# Altium footprint library Leaded Chip Carrier (Square) - Centre Index.PcbLib: 48 footprints (part 3 of 3)
Each footprint in its own frame and in the unit in brackets; x right, y up, seen from the top. Pads: shape width x height; smd on the part's side, far side on the other; paste and mask are expansions set on the pad; w line width, h text height; cw(c..) or ccw(c..) is an arc to the next point about the centre after c.
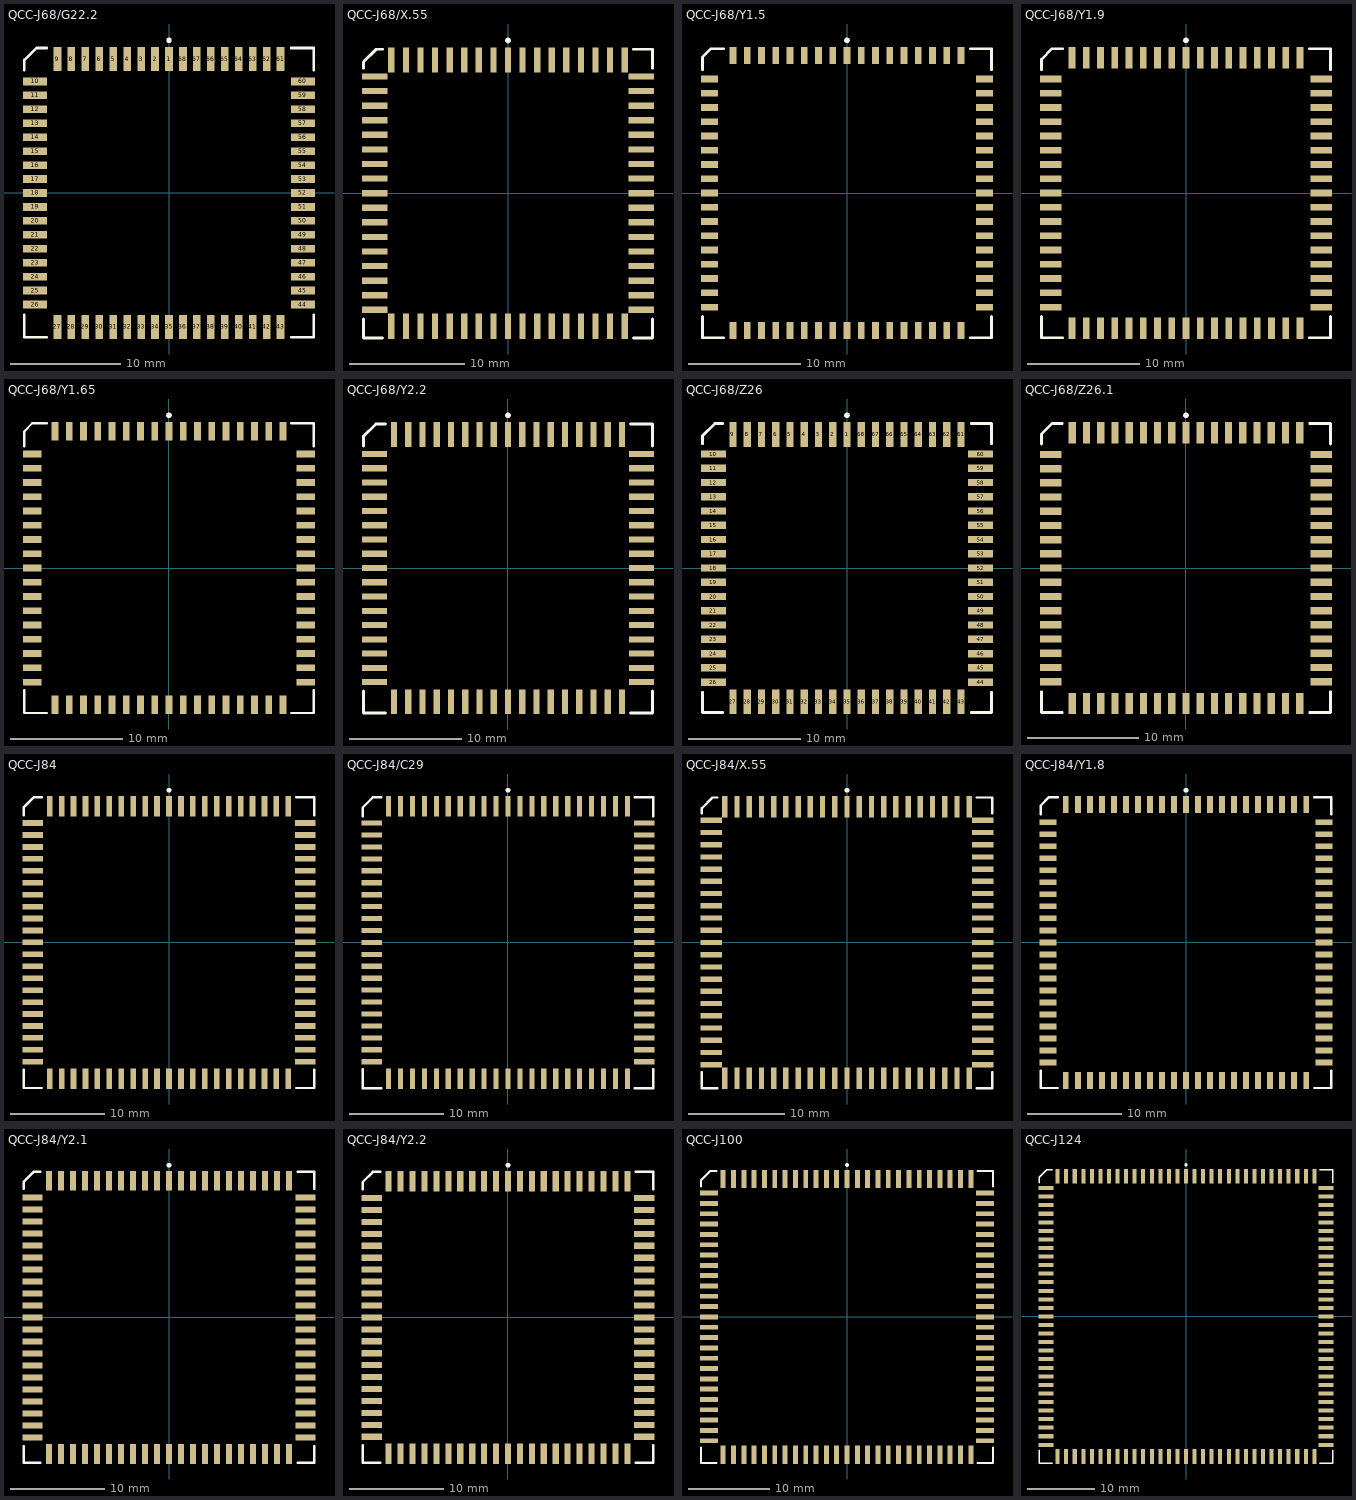
[diagram p2: the footprints below, top view; thin cyan lines are the x and y axes]

## QCC-J68/G22.2 [mm] "Leaded Chip Carrier; 68 Leads; Body 24 x 24 mm"
height 3.68
pads (68):
  rect 0.7x2.2 smd: 1(0,12.2) 2(-1.27,12.2) 3(-2.54,12.2) 4(-3.81,12.2) 5(-5.08,12.2) 6(-6.35,12.2) 7(-7.62,12.2) 8(-8.89,12.2) 9(-10.16,12.2) 27(-10.16,-12.2) 28(-8.89,-12.2) 29(-7.62,-12.2) 30(-6.35,-12.2) 31(-5.08,-12.2) 32(-3.81,-12.2) 33(-2.54,-12.2) 34(-1.27,-12.2) 35(0,-12.2) 36(1.27,-12.2) 37(2.54,-12.2) 38(3.81,-12.2) 39(5.08,-12.2) 40(6.35,-12.2) 41(7.62,-12.2) 42(8.89,-12.2) 43(10.16,-12.2) 61(10.16,12.2) 62(8.89,12.2) 63(7.62,12.2) 64(6.35,12.2) 65(5.08,12.2) 66(3.81,12.2) 67(2.54,12.2) 68(1.27,12.2)
  rect 2.2x0.7 smd: 10(-12.2,10.16) 11(-12.2,8.89) 12(-12.2,7.62) 13(-12.2,6.35) 14(-12.2,5.08) 15(-12.2,3.81) 16(-12.2,2.54) 17(-12.2,1.27) 18(-12.2,0) 19(-12.2,-1.27) 20(-12.2,-2.54) 21(-12.2,-3.81) 22(-12.2,-5.08) 23(-12.2,-6.35) 24(-12.2,-7.62) 25(-12.2,-8.89) 26(-12.2,-10.16) 44(12.2,-10.16) 45(12.2,-8.89) 46(12.2,-7.62) 47(12.2,-6.35) 48(12.2,-5.08) 49(12.2,-3.81) 50(12.2,-2.54) 51(12.2,-1.27) 52(12.2,0) 53(12.2,1.27) 54(12.2,2.54) 55(12.2,3.81) 56(12.2,5.08) 57(12.2,6.35) 58(12.2,7.62) 59(12.2,8.89) 60(12.2,10.16)
Top Overlay:
  circle w0.25: c0,13.9 r0.125
  lines w0.25: -13.175,-11.107 -13.175,-13.137 -11.145,-13.137 ; -13.175,11.182 -13.175,12.113 -12.075,13.213 -11.145,13.213 ; 11.145,-13.137 13.175,-13.137 13.175,-11.107 ; 11.145,13.213 13.175,13.213 13.175,11.182

## QCC-J68/X.55 [mm]
pads (68):
  rect 0.55x2.2 smd: 1(0,11.6) 2(-1.27,11.6) 3(-2.54,11.6) 4(-3.81,11.6) 5(-5.08,11.6) 6(-6.35,11.6) 7(-7.62,11.6) 8(-8.89,11.6) 9(-10.16,11.6) 27(-10.16,-11.6) 28(-8.89,-11.6) 29(-7.62,-11.6) 30(-6.35,-11.6) 31(-5.08,-11.6) 32(-3.81,-11.6) 33(-2.54,-11.6) 34(-1.27,-11.6) 35(0,-11.6) 36(1.27,-11.6) 37(2.54,-11.6) 38(3.81,-11.6) 39(5.08,-11.6) 40(6.35,-11.6) 41(7.62,-11.6) 42(8.89,-11.6) 43(10.16,-11.6) 61(10.16,11.6) 62(8.89,11.6) 63(7.62,11.6) 64(6.35,11.6) 65(5.08,11.6) 66(3.81,11.6) 67(2.54,11.6) 68(1.27,11.6)
  rect 2.2x0.55 smd: 10(-11.6,10.16) 11(-11.6,8.89) 12(-11.6,7.62) 13(-11.6,6.35) 14(-11.6,5.08) 15(-11.6,3.81) 16(-11.6,2.54) 17(-11.6,1.27) 18(-11.6,0) 19(-11.6,-1.27) 20(-11.6,-2.54) 21(-11.6,-3.81) 22(-11.6,-5.08) 23(-11.6,-6.35) 24(-11.6,-7.62) 25(-11.6,-8.89) 26(-11.6,-10.16) 44(11.6,-10.16) 45(11.6,-8.89) 46(11.6,-7.62) 47(11.6,-6.35) 48(11.6,-5.08) 49(11.6,-3.81) 50(11.6,-2.54) 51(11.6,-1.27) 52(11.6,0) 53(11.6,1.27) 54(11.6,2.54) 55(11.6,3.81) 56(11.6,5.08) 57(11.6,6.35) 58(11.6,7.62) 59(11.6,8.89) 60(11.6,10.16)
Top Overlay:
  circle w0.25: c0,13.3 r0.125
  lines w0.25: -12.575,-10.958 -12.575,-12.612 -10.92,-12.612 ; -12.575,10.883 -12.575,11.437 -11.475,12.537 -10.92,12.537 ; 10.92,-12.612 12.575,-12.612 12.575,-10.958 ; 10.92,12.537 12.575,12.537 12.575,10.883

## QCC-J68/Y1.5 [mm] "Leaded Chip Carrier; 68 Leads; Body 24.2 x 24.2 mm"
height 4.5
pads (68):
  rect 0.6x1.5 smd: 1(0,12.25) 2(-1.27,12.25) 3(-2.54,12.25) 4(-3.81,12.25) 5(-5.08,12.25) 6(-6.35,12.25) 7(-7.62,12.25) 8(-8.89,12.25) 9(-10.16,12.25) 27(-10.16,-12.25) 28(-8.89,-12.25) 29(-7.62,-12.25) 30(-6.35,-12.25) 31(-5.08,-12.25) 32(-3.81,-12.25) 33(-2.54,-12.25) 34(-1.27,-12.25) 35(0,-12.25) 36(1.27,-12.25) 37(2.54,-12.25) 38(3.81,-12.25) 39(5.08,-12.25) 40(6.35,-12.25) 41(7.62,-12.25) 42(8.89,-12.25) 43(10.16,-12.25) 61(10.16,12.25) 62(8.89,12.25) 63(7.62,12.25) 64(6.35,12.25) 65(5.08,12.25) 66(3.81,12.25) 67(2.54,12.25) 68(1.27,12.25)
  rect 1.5x0.6 smd: 10(-12.25,10.16) 11(-12.25,8.89) 12(-12.25,7.62) 13(-12.25,6.35) 14(-12.25,5.08) 15(-12.25,3.81) 16(-12.25,2.54) 17(-12.25,1.27) 18(-12.25,0) 19(-12.25,-1.27) 20(-12.25,-2.54) 21(-12.25,-3.81) 22(-12.25,-5.08) 23(-12.25,-6.35) 24(-12.25,-7.62) 25(-12.25,-8.89) 26(-12.25,-10.16) 44(12.25,-10.16) 45(12.25,-8.89) 46(12.25,-7.62) 47(12.25,-6.35) 48(12.25,-5.08) 49(12.25,-3.81) 50(12.25,-2.54) 51(12.25,-1.27) 52(12.25,0) 53(12.25,1.27) 54(12.25,2.54) 55(12.25,3.81) 56(12.25,5.08) 57(12.25,6.35) 58(12.25,7.62) 59(12.25,8.89) 60(12.25,10.16)
Top Overlay:
  circle w0.25: c0,13.6 r0.125
  lines w0.25: -12.875,-11.008 -12.875,-12.887 -10.995,-12.887 ; -12.875,10.982 -12.875,12.113 -12.125,12.862 -10.995,12.862 ; 10.995,-12.887 12.875,-12.887 12.875,-11.008 ; 10.995,12.862 12.875,12.862 12.875,10.982

## QCC-J68/Y1.9 [mm] "Leaded Chip Carrier; 68 Leads; Body 24.2 x 24.2 mm"
height 4.5
pads (68):
  rect 0.6x1.9 smd: 1(0,12.05) 2(-1.27,12.05) 3(-2.54,12.05) 4(-3.81,12.05) 5(-5.08,12.05) 6(-6.35,12.05) 7(-7.62,12.05) 8(-8.89,12.05) 9(-10.16,12.05) 27(-10.16,-12.05) 28(-8.89,-12.05) 29(-7.62,-12.05) 30(-6.35,-12.05) 31(-5.08,-12.05) 32(-3.81,-12.05) 33(-2.54,-12.05) 34(-1.27,-12.05) 35(0,-12.05) 36(1.27,-12.05) 37(2.54,-12.05) 38(3.81,-12.05) 39(5.08,-12.05) 40(6.35,-12.05) 41(7.62,-12.05) 42(8.89,-12.05) 43(10.16,-12.05) 61(10.16,12.05) 62(8.89,12.05) 63(7.62,12.05) 64(6.35,12.05) 65(5.08,12.05) 66(3.81,12.05) 67(2.54,12.05) 68(1.27,12.05)
  rect 1.9x0.6 smd: 10(-12.05,10.16) 11(-12.05,8.89) 12(-12.05,7.62) 13(-12.05,6.35) 14(-12.05,5.08) 15(-12.05,3.81) 16(-12.05,2.54) 17(-12.05,1.27) 18(-12.05,0) 19(-12.05,-1.27) 20(-12.05,-2.54) 21(-12.05,-3.81) 22(-12.05,-5.08) 23(-12.05,-6.35) 24(-12.05,-7.62) 25(-12.05,-8.89) 26(-12.05,-10.16) 44(12.05,-10.16) 45(12.05,-8.89) 46(12.05,-7.62) 47(12.05,-6.35) 48(12.05,-5.08) 49(12.05,-3.81) 50(12.05,-2.54) 51(12.05,-1.27) 52(12.05,0) 53(12.05,1.27) 54(12.05,2.54) 55(12.05,3.81) 56(12.05,5.08) 57(12.05,6.35) 58(12.05,7.62) 59(12.05,8.89) 60(12.05,10.16)
Top Overlay:
  circle w0.25: c0,13.6 r0.125
  lines w0.25: -12.875,-11.008 -12.875,-12.887 -10.995,-12.887 ; -12.875,10.982 -12.875,11.913 -11.925,12.862 -10.995,12.862 ; 10.995,-12.887 12.875,-12.887 12.875,-11.008 ; 10.995,12.862 12.875,12.862 12.875,10.982

## QCC-J68/Y1.65 [mm] "Leaded Chip Carrier; 68 Leads; Body 24.2 x 24.2 mm"
height 4.58
pads (68):
  rect 0.6x1.65 smd: 1(0,12.175) 2(-1.27,12.175) 3(-2.54,12.175) 4(-3.81,12.175) 5(-5.08,12.175) 6(-6.35,12.175) 7(-7.62,12.175) 8(-8.89,12.175) 9(-10.16,12.175) 27(-10.16,-12.175) 28(-8.89,-12.175) 29(-7.62,-12.175) 30(-6.35,-12.175) 31(-5.08,-12.175) 32(-3.81,-12.175) 33(-2.54,-12.175) 34(-1.27,-12.175) 35(0,-12.175) 36(1.27,-12.175) 37(2.54,-12.175) 38(3.81,-12.175) 39(5.08,-12.175) 40(6.35,-12.175) 41(7.62,-12.175) 42(8.89,-12.175) 43(10.16,-12.175) 61(10.16,12.175) 62(8.89,12.175) 63(7.62,12.175) 64(6.35,12.175) 65(5.08,12.175) 66(3.81,12.175) 67(2.54,12.175) 68(1.27,12.175)
  rect 1.65x0.6 smd: 10(-12.175,10.16) 11(-12.175,8.89) 12(-12.175,7.62) 13(-12.175,6.35) 14(-12.175,5.08) 15(-12.175,3.81) 16(-12.175,2.54) 17(-12.175,1.27) 18(-12.175,0) 19(-12.175,-1.27) 20(-12.175,-2.54) 21(-12.175,-3.81) 22(-12.175,-5.08) 23(-12.175,-6.35) 24(-12.175,-7.62) 25(-12.175,-8.89) 26(-12.175,-10.16) 44(12.175,-10.16) 45(12.175,-8.89) 46(12.175,-7.62) 47(12.175,-6.35) 48(12.175,-5.08) 49(12.175,-3.81) 50(12.175,-2.54) 51(12.175,-1.27) 52(12.175,0) 53(12.175,1.27) 54(12.175,2.54) 55(12.175,3.81) 56(12.175,5.08) 57(12.175,6.35) 58(12.175,7.62) 59(12.175,8.89) 60(12.175,10.16)
Top Overlay:
  circle w0.25: c0,13.6 r0.125
  lines w0.2: -12.9,-10.86 -12.9,-12.9 -10.86,-12.9 ; -12.9,10.86 -12.9,12.175 -12.175,12.9 -10.86,12.9 ; 10.86,-12.9 12.9,-12.9 12.9,-10.86 ; 10.86,12.9 12.9,12.9 12.9,10.86

## QCC-J68/Y2.2 [mm] "Leaded Chip Carrier; 68 Leads; Body 24.2 x 24.2 mm"
height 5.08
pads (68):
  rect 0.55x2.2 smd: 1(0,11.9) 2(-1.27,11.9) 3(-2.54,11.9) 4(-3.81,11.9) 5(-5.08,11.9) 6(-6.35,11.9) 7(-7.62,11.9) 8(-8.89,11.9) 9(-10.16,11.9) 27(-10.16,-11.9) 28(-8.89,-11.9) 29(-7.62,-11.9) 30(-6.35,-11.9) 31(-5.08,-11.9) 32(-3.81,-11.9) 33(-2.54,-11.9) 34(-1.27,-11.9) 35(0,-11.9) 36(1.27,-11.9) 37(2.54,-11.9) 38(3.81,-11.9) 39(5.08,-11.9) 40(6.35,-11.9) 41(7.62,-11.9) 42(8.89,-11.9) 43(10.16,-11.9) 61(10.16,11.9) 62(8.89,11.9) 63(7.62,11.9) 64(6.35,11.9) 65(5.08,11.9) 66(3.81,11.9) 67(2.54,11.9) 68(1.27,11.9)
  rect 2.2x0.55 smd: 10(-11.9,10.16) 11(-11.9,8.89) 12(-11.9,7.62) 13(-11.9,6.35) 14(-11.9,5.08) 15(-11.9,3.81) 16(-11.9,2.54) 17(-11.9,1.27) 18(-11.9,0) 19(-11.9,-1.27) 20(-11.9,-2.54) 21(-11.9,-3.81) 22(-11.9,-5.08) 23(-11.9,-6.35) 24(-11.9,-7.62) 25(-11.9,-8.89) 26(-11.9,-10.16) 44(11.9,-10.16) 45(11.9,-8.89) 46(11.9,-7.62) 47(11.9,-6.35) 48(11.9,-5.08) 49(11.9,-3.81) 50(11.9,-2.54) 51(11.9,-1.27) 52(11.9,0) 53(11.9,1.27) 54(11.9,2.54) 55(11.9,3.81) 56(11.9,5.08) 57(11.9,6.35) 58(11.9,7.62) 59(11.9,8.89) 60(11.9,10.16)
Top Overlay:
  circle w0.25: c0,13.6 r0.125
  lines w0.25: -12.875,-10.957 -12.875,-12.912 -10.92,-12.912 ; -12.875,10.883 -12.875,11.738 -11.775,12.838 -10.92,12.838 ; 10.92,-12.912 12.875,-12.912 12.875,-10.957 ; 10.92,12.838 12.875,12.838 12.875,10.883

## QCC-J68/Z26 [mm] "68-Pin J-Leaded Cerquad Chip Carrier"
height 4.58
pads (68):
  rect 0.65x2.2 smd: 1(0,11.9) 2(-1.27,11.9) 3(-2.54,11.9) 4(-3.81,11.9) 5(-5.08,11.9) 6(-6.35,11.9) 7(-7.62,11.9) 8(-8.89,11.9) 9(-10.16,11.9) 27(-10.16,-11.9) 28(-8.89,-11.9) 29(-7.62,-11.9) 30(-6.35,-11.9) 31(-5.08,-11.9) 32(-3.81,-11.9) 33(-2.54,-11.9) 34(-1.27,-11.9) 35(0,-11.9) 36(1.27,-11.9) 37(2.54,-11.9) 38(3.81,-11.9) 39(5.08,-11.9) 40(6.35,-11.9) 41(7.62,-11.9) 42(8.89,-11.9) 43(10.16,-11.9) 61(10.16,11.9) 62(8.89,11.9) 63(7.62,11.9) 64(6.35,11.9) 65(5.08,11.9) 66(3.81,11.9) 67(2.54,11.9) 68(1.27,11.9)
  rect 2.2x0.65 smd: 10(-11.9,10.16) 11(-11.9,8.89) 12(-11.9,7.62) 13(-11.9,6.35) 14(-11.9,5.08) 15(-11.9,3.81) 16(-11.9,2.54) 17(-11.9,1.27) 18(-11.9,0) 19(-11.9,-1.27) 20(-11.9,-2.54) 21(-11.9,-3.81) 22(-11.9,-5.08) 23(-11.9,-6.35) 24(-11.9,-7.62) 25(-11.9,-8.89) 26(-11.9,-10.16) 44(11.9,-10.16) 45(11.9,-8.89) 46(11.9,-7.62) 47(11.9,-6.35) 48(11.9,-5.08) 49(11.9,-3.81) 50(11.9,-2.54) 51(11.9,-1.27) 52(11.9,0) 53(11.9,1.27) 54(11.9,2.54) 55(11.9,3.81) 56(11.9,5.08) 57(11.9,6.35) 58(11.9,7.62) 59(11.9,8.89) 60(11.9,10.16)
Top Overlay:
  circle w0.25: c0,13.6 r0.125
  lines w0.25: -12.875,-11.058 -12.875,-12.863 -11.07,-12.863 ; -12.875,11.083 -12.875,11.788 -11.775,12.888 -11.07,12.888 ; 11.07,-12.863 12.875,-12.863 12.875,-11.058 ; 11.07,12.888 12.875,12.888 12.875,11.083

## QCC-J68/Z26.1 [mm] "Leaded Chip Carrier; 68 Leads; Body 24 x 24 mm"
height 3.43
pads (68):
  rect 0.65x1.9 smd: 1(0,12.1) 2(-1.27,12.1) 3(-2.54,12.1) 4(-3.81,12.1) 5(-5.08,12.1) 6(-6.35,12.1) 7(-7.62,12.1) 8(-8.89,12.1) 9(-10.16,12.1) 27(-10.16,-12.1) 28(-8.89,-12.1) 29(-7.62,-12.1) 30(-6.35,-12.1) 31(-5.08,-12.1) 32(-3.81,-12.1) 33(-2.54,-12.1) 34(-1.27,-12.1) 35(0,-12.1) 36(1.27,-12.1) 37(2.54,-12.1) 38(3.81,-12.1) 39(5.08,-12.1) 40(6.35,-12.1) 41(7.62,-12.1) 42(8.89,-12.1) 43(10.16,-12.1) 61(10.16,12.1) 62(8.89,12.1) 63(7.62,12.1) 64(6.35,12.1) 65(5.08,12.1) 66(3.81,12.1) 67(2.54,12.1) 68(1.27,12.1)
  rect 1.9x0.65 smd: 10(-12.1,10.16) 11(-12.1,8.89) 12(-12.1,7.62) 13(-12.1,6.35) 14(-12.1,5.08) 15(-12.1,3.81) 16(-12.1,2.54) 17(-12.1,1.27) 18(-12.1,0) 19(-12.1,-1.27) 20(-12.1,-2.54) 21(-12.1,-3.81) 22(-12.1,-5.08) 23(-12.1,-6.35) 24(-12.1,-7.62) 25(-12.1,-8.89) 26(-12.1,-10.16) 44(12.1,-10.16) 45(12.1,-8.89) 46(12.1,-7.62) 47(12.1,-6.35) 48(12.1,-5.08) 49(12.1,-3.81) 50(12.1,-2.54) 51(12.1,-1.27) 52(12.1,0) 53(12.1,1.27) 54(12.1,2.54) 55(12.1,3.81) 56(12.1,5.08) 57(12.1,6.35) 58(12.1,7.62) 59(12.1,8.89) 60(12.1,10.16)
Top Overlay:
  circle w0.25: c0,13.65 r0.125
  lines w0.25: -12.925,-11.058 -12.925,-12.912 -11.07,-12.912 ; -12.925,11.083 -12.925,11.988 -11.975,12.937 -11.07,12.937 ; 11.07,-12.912 12.925,-12.912 12.925,-11.058 ; 11.07,12.937 12.925,12.937 12.925,11.083

## QCC-J84 [mm] "84-Pin Plastic Leaded Chip Carrier (PLCC)"
height 4.58
pads (84):
  rect 0.6x2.2 smd: 1(0,14.5) 2(-1.27,14.5) 3(-2.54,14.5) 4(-3.81,14.5) 5(-5.08,14.5) 6(-6.35,14.5) 7(-7.62,14.5) 8(-8.89,14.5) 9(-10.16,14.5) 10(-11.43,14.5) 11(-12.7,14.5) 33(-12.7,-14.5) 34(-11.43,-14.5) 35(-10.16,-14.5) 36(-8.89,-14.5) 37(-7.62,-14.5) 38(-6.35,-14.5) 39(-5.08,-14.5) 40(-3.81,-14.5) 41(-2.54,-14.5) 42(-1.27,-14.5) 43(0,-14.5) 44(1.27,-14.5) 45(2.54,-14.5) 46(3.81,-14.5) 47(5.08,-14.5) 48(6.35,-14.5) 49(7.62,-14.5) 50(8.89,-14.5) 51(10.16,-14.5) 52(11.43,-14.5) 53(12.7,-14.5) 75(12.7,14.5) 76(11.43,14.5) 77(10.16,14.5) 78(8.89,14.5) 79(7.62,14.5) 80(6.35,14.5) 81(5.08,14.5) 82(3.81,14.5) 83(2.54,14.5) 84(1.27,14.5)
  rect 2.2x0.6 smd: 12(-14.5,12.7) 13(-14.5,11.43) 14(-14.5,10.16) 15(-14.5,8.89) 16(-14.5,7.62) 17(-14.5,6.35) 18(-14.5,5.08) 19(-14.5,3.81) 20(-14.5,2.54) 21(-14.5,1.27) 22(-14.5,0) 23(-14.5,-1.27) 24(-14.5,-2.54) 25(-14.5,-3.81) 26(-14.5,-5.08) 27(-14.5,-6.35) 28(-14.5,-7.62) 29(-14.5,-8.89) 30(-14.5,-10.16) 31(-14.5,-11.43) 32(-14.5,-12.7) 54(14.5,-12.7) 55(14.5,-11.43) 56(14.5,-10.16) 57(14.5,-8.89) 58(14.5,-7.62) 59(14.5,-6.35) 60(14.5,-5.08) 61(14.5,-3.81) 62(14.5,-2.54) 63(14.5,-1.27) 64(14.5,0) 65(14.5,1.27) 66(14.5,2.54) 67(14.5,3.81) 68(14.5,5.08) 69(14.5,6.35) 70(14.5,7.62) 71(14.5,8.89) 72(14.5,10.16) 73(14.5,11.43) 74(14.5,12.7)
Top Overlay:
  circle w0.25: c0,16.2 r0.125
  lines w0.25: -15.475,-13.547 -15.475,-15.487 -13.535,-15.487 ; -15.475,13.523 -15.475,14.363 -14.375,15.463 -13.535,15.463 ; 13.535,-15.487 15.475,-15.487 15.475,-13.547 ; 13.535,15.463 15.475,15.463 15.475,13.523

## QCC-J84/C29 [mm] "Leaded Chip Carrier; 84 Leads; Body 29.3 x 29.3 mm"
height 5.08
pads (84):
  rect 0.55x2.2 smd: 1(0,14.5) 2(-1.27,14.5) 3(-2.54,14.5) 4(-3.81,14.5) 5(-5.08,14.5) 6(-6.35,14.5) 7(-7.62,14.5) 8(-8.89,14.5) 9(-10.16,14.5) 10(-11.43,14.5) 11(-12.7,14.5) 33(-12.7,-14.5) 34(-11.43,-14.5) 35(-10.16,-14.5) 36(-8.89,-14.5) 37(-7.62,-14.5) 38(-6.35,-14.5) 39(-5.08,-14.5) 40(-3.81,-14.5) 41(-2.54,-14.5) 42(-1.27,-14.5) 43(0,-14.5) 44(1.27,-14.5) 45(2.54,-14.5) 46(3.81,-14.5) 47(5.08,-14.5) 48(6.35,-14.5) 49(7.62,-14.5) 50(8.89,-14.5) 51(10.16,-14.5) 52(11.43,-14.5) 53(12.7,-14.5) 75(12.7,14.5) 76(11.43,14.5) 77(10.16,14.5) 78(8.89,14.5) 79(7.62,14.5) 80(6.35,14.5) 81(5.08,14.5) 82(3.81,14.5) 83(2.54,14.5) 84(1.27,14.5)
  rect 2.2x0.55 smd: 12(-14.5,12.7) 13(-14.5,11.43) 14(-14.5,10.16) 15(-14.5,8.89) 16(-14.5,7.62) 17(-14.5,6.35) 18(-14.5,5.08) 19(-14.5,3.81) 20(-14.5,2.54) 21(-14.5,1.27) 22(-14.5,0) 23(-14.5,-1.27) 24(-14.5,-2.54) 25(-14.5,-3.81) 26(-14.5,-5.08) 27(-14.5,-6.35) 28(-14.5,-7.62) 29(-14.5,-8.89) 30(-14.5,-10.16) 31(-14.5,-11.43) 32(-14.5,-12.7) 54(14.5,-12.7) 55(14.5,-11.43) 56(14.5,-10.16) 57(14.5,-8.89) 58(14.5,-7.62) 59(14.5,-6.35) 60(14.5,-5.08) 61(14.5,-3.81) 62(14.5,-2.54) 63(14.5,-1.27) 64(14.5,0) 65(14.5,1.27) 66(14.5,2.54) 67(14.5,3.81) 68(14.5,5.08) 69(14.5,6.35) 70(14.5,7.62) 71(14.5,8.89) 72(14.5,10.16) 73(14.5,11.43) 74(14.5,12.7)
Top Overlay:
  circle w0.25: c0,16.2 r0.125
  lines w0.25: -15.475,-13.497 -15.475,-15.512 -13.46,-15.512 ; -15.475,13.423 -15.475,14.338 -14.375,15.438 -13.46,15.438 ; 13.46,-15.512 15.475,-15.512 15.475,-13.497 ; 13.46,15.438 15.475,15.438 15.475,13.423

## QCC-J84/X.55 [mm]
pads (84):
  rect 0.55x2.25 smd: 1(0,14.1) 2(-1.27,14.1) 3(-2.54,14.1) 4(-3.81,14.1) 5(-5.08,14.1) 6(-6.35,14.1) 7(-7.62,14.1) 8(-8.89,14.1) 9(-10.16,14.1) 10(-11.43,14.1) 11(-12.7,14.1) 33(-12.7,-14.1) 34(-11.43,-14.1) 35(-10.16,-14.1) 36(-8.89,-14.1) 37(-7.62,-14.1) 38(-6.35,-14.1) 39(-5.08,-14.1) 40(-3.81,-14.1) 41(-2.54,-14.1) 42(-1.27,-14.1) 43(0,-14.1) 44(1.27,-14.1) 45(2.54,-14.1) 46(3.81,-14.1) 47(5.08,-14.1) 48(6.35,-14.1) 49(7.62,-14.1) 50(8.89,-14.1) 51(10.16,-14.1) 52(11.43,-14.1) 53(12.7,-14.1) 75(12.7,14.1) 76(11.43,14.1) 77(10.16,14.1) 78(8.89,14.1) 79(7.62,14.1) 80(6.35,14.1) 81(5.08,14.1) 82(3.81,14.1) 83(2.54,14.1) 84(1.27,14.1)
  rect 2.25x0.55 smd: 12(-14.1,12.7) 13(-14.1,11.43) 14(-14.1,10.16) 15(-14.1,8.89) 16(-14.1,7.62) 17(-14.1,6.35) 18(-14.1,5.08) 19(-14.1,3.81) 20(-14.1,2.54) 21(-14.1,1.27) 22(-14.1,0) 23(-14.1,-1.27) 24(-14.1,-2.54) 25(-14.1,-3.81) 26(-14.1,-5.08) 27(-14.1,-6.35) 28(-14.1,-7.62) 29(-14.1,-8.89) 30(-14.1,-10.16) 31(-14.1,-11.43) 32(-14.1,-12.7) 54(14.1,-12.7) 55(14.1,-11.43) 56(14.1,-10.16) 57(14.1,-8.89) 58(14.1,-7.62) 59(14.1,-6.35) 60(14.1,-5.08) 61(14.1,-3.81) 62(14.1,-2.54) 63(14.1,-1.27) 64(14.1,0) 65(14.1,1.27) 66(14.1,2.54) 67(14.1,3.81) 68(14.1,5.08) 69(14.1,6.35) 70(14.1,7.62) 71(14.1,8.89) 72(14.1,10.16) 73(14.1,11.43) 74(14.1,12.7)
Top Overlay:
  circle w0.25: c0,15.825 r0.125
  lines w0.25: -15.1,-13.498 -15.1,-15.138 -13.46,-15.138 ; -15.1,13.423 -15.1,13.937 -13.975,15.063 -13.46,15.063 ; 13.46,-15.138 15.1,-15.138 15.1,-13.498 ; 13.46,15.063 15.1,15.063 15.1,13.423

## QCC-J84/Y1.8 [mm] "Leaded Chip Carrier; 84 Leads; Body 29.3 x 29.3 mm"
height 4.57
pads (84):
  rect 0.6x1.8 smd: 1(0,14.6) 2(-1.27,14.6) 3(-2.54,14.6) 4(-3.81,14.6) 5(-5.08,14.6) 6(-6.35,14.6) 7(-7.62,14.6) 8(-8.89,14.6) 9(-10.16,14.6) 10(-11.43,14.6) 11(-12.7,14.6) 33(-12.7,-14.6) 34(-11.43,-14.6) 35(-10.16,-14.6) 36(-8.89,-14.6) 37(-7.62,-14.6) 38(-6.35,-14.6) 39(-5.08,-14.6) 40(-3.81,-14.6) 41(-2.54,-14.6) 42(-1.27,-14.6) 43(0,-14.6) 44(1.27,-14.6) 45(2.54,-14.6) 46(3.81,-14.6) 47(5.08,-14.6) 48(6.35,-14.6) 49(7.62,-14.6) 50(8.89,-14.6) 51(10.16,-14.6) 52(11.43,-14.6) 53(12.7,-14.6) 75(12.7,14.6) 76(11.43,14.6) 77(10.16,14.6) 78(8.89,14.6) 79(7.62,14.6) 80(6.35,14.6) 81(5.08,14.6) 82(3.81,14.6) 83(2.54,14.6) 84(1.27,14.6)
  rect 1.8x0.6 smd: 12(-14.6,12.7) 13(-14.6,11.43) 14(-14.6,10.16) 15(-14.6,8.89) 16(-14.6,7.62) 17(-14.6,6.35) 18(-14.6,5.08) 19(-14.6,3.81) 20(-14.6,2.54) 21(-14.6,1.27) 22(-14.6,0) 23(-14.6,-1.27) 24(-14.6,-2.54) 25(-14.6,-3.81) 26(-14.6,-5.08) 27(-14.6,-6.35) 28(-14.6,-7.62) 29(-14.6,-8.89) 30(-14.6,-10.16) 31(-14.6,-11.43) 32(-14.6,-12.7) 54(14.6,-12.7) 55(14.6,-11.43) 56(14.6,-10.16) 57(14.6,-8.89) 58(14.6,-7.62) 59(14.6,-6.35) 60(14.6,-5.08) 61(14.6,-3.81) 62(14.6,-2.54) 63(14.6,-1.27) 64(14.6,0) 65(14.6,1.27) 66(14.6,2.54) 67(14.6,3.81) 68(14.6,5.08) 69(14.6,6.35) 70(14.6,7.62) 71(14.6,8.89) 72(14.6,10.16) 73(14.6,11.43) 74(14.6,12.7)
Top Overlay:
  circle w0.25: c0,16.1 r0.125
  lines w0.25: -15.375,-13.547 -15.375,-15.387 -13.535,-15.387 ; -15.375,13.523 -15.375,14.463 -14.475,15.363 -13.535,15.363 ; 13.535,-15.387 15.375,-15.387 15.375,-13.547 ; 13.535,15.363 15.375,15.363 15.375,13.523

## QCC-J84/Y2.1 [mm] "84-Pin Windowed Ceramic Leaded Chip Carrier (WC84)"
height 4.83
pads (84):
  rect 0.65x2.1 smd: 1(0,14.45) 2(-1.27,14.45) 3(-2.54,14.45) 4(-3.81,14.45) 5(-5.08,14.45) 6(-6.35,14.45) 7(-7.62,14.45) 8(-8.89,14.45) 9(-10.16,14.45) 10(-11.43,14.45) 11(-12.7,14.45) 33(-12.7,-14.45) 34(-11.43,-14.45) 35(-10.16,-14.45) 36(-8.89,-14.45) 37(-7.62,-14.45) 38(-6.35,-14.45) 39(-5.08,-14.45) 40(-3.81,-14.45) 41(-2.54,-14.45) 42(-1.27,-14.45) 43(0,-14.45) 44(1.27,-14.45) 45(2.54,-14.45) 46(3.81,-14.45) 47(5.08,-14.45) 48(6.35,-14.45) 49(7.62,-14.45) 50(8.89,-14.45) 51(10.16,-14.45) 52(11.43,-14.45) 53(12.7,-14.45) 75(12.7,14.45) 76(11.43,14.45) 77(10.16,14.45) 78(8.89,14.45) 79(7.62,14.45) 80(6.35,14.45) 81(5.08,14.45) 82(3.81,14.45) 83(2.54,14.45) 84(1.27,14.45)
  rect 2.1x0.65 smd: 12(-14.45,12.7) 13(-14.45,11.43) 14(-14.45,10.16) 15(-14.45,8.89) 16(-14.45,7.62) 17(-14.45,6.35) 18(-14.45,5.08) 19(-14.45,3.81) 20(-14.45,2.54) 21(-14.45,1.27) 22(-14.45,0) 23(-14.45,-1.27) 24(-14.45,-2.54) 25(-14.45,-3.81) 26(-14.45,-5.08) 27(-14.45,-6.35) 28(-14.45,-7.62) 29(-14.45,-8.89) 30(-14.45,-10.16) 31(-14.45,-11.43) 32(-14.45,-12.7) 54(14.45,-12.7) 55(14.45,-11.43) 56(14.45,-10.16) 57(14.45,-8.89) 58(14.45,-7.62) 59(14.45,-6.35) 60(14.45,-5.08) 61(14.45,-3.81) 62(14.45,-2.54) 63(14.45,-1.27) 64(14.45,0) 65(14.45,1.27) 66(14.45,2.54) 67(14.45,3.81) 68(14.45,5.08) 69(14.45,6.35) 70(14.45,7.62) 71(14.45,8.89) 72(14.45,10.16) 73(14.45,11.43) 74(14.45,12.7)
Top Overlay:
  circle w0.25: c0,16.1 r0.125
  lines w0.25: -15.375,-13.597 -15.375,-15.362 -13.61,-15.362 ; -15.375,13.622 -15.375,14.337 -14.325,15.387 -13.61,15.387 ; 13.61,-15.362 15.375,-15.362 15.375,-13.597 ; 13.61,15.387 15.375,15.387 15.375,13.622

## QCC-J84/Y2.2 [mm] "84-Pin J-Leaded Cerquad Chip Carrier"
height 4.58
pads (84):
  rect 0.65x2.2 smd: 1(0,14.5) 2(-1.27,14.5) 3(-2.54,14.5) 4(-3.81,14.5) 5(-5.08,14.5) 6(-6.35,14.5) 7(-7.62,14.5) 8(-8.89,14.5) 9(-10.16,14.5) 10(-11.43,14.5) 11(-12.7,14.5) 33(-12.7,-14.5) 34(-11.43,-14.5) 35(-10.16,-14.5) 36(-8.89,-14.5) 37(-7.62,-14.5) 38(-6.35,-14.5) 39(-5.08,-14.5) 40(-3.81,-14.5) 41(-2.54,-14.5) 42(-1.27,-14.5) 43(0,-14.5) 44(1.27,-14.5) 45(2.54,-14.5) 46(3.81,-14.5) 47(5.08,-14.5) 48(6.35,-14.5) 49(7.62,-14.5) 50(8.89,-14.5) 51(10.16,-14.5) 52(11.43,-14.5) 53(12.7,-14.5) 75(12.7,14.5) 76(11.43,14.5) 77(10.16,14.5) 78(8.89,14.5) 79(7.62,14.5) 80(6.35,14.5) 81(5.08,14.5) 82(3.81,14.5) 83(2.54,14.5) 84(1.27,14.5)
  rect 2.2x0.65 smd: 12(-14.5,12.7) 13(-14.5,11.43) 14(-14.5,10.16) 15(-14.5,8.89) 16(-14.5,7.62) 17(-14.5,6.35) 18(-14.5,5.08) 19(-14.5,3.81) 20(-14.5,2.54) 21(-14.5,1.27) 22(-14.5,0) 23(-14.5,-1.27) 24(-14.5,-2.54) 25(-14.5,-3.81) 26(-14.5,-5.08) 27(-14.5,-6.35) 28(-14.5,-7.62) 29(-14.5,-8.89) 30(-14.5,-10.16) 31(-14.5,-11.43) 32(-14.5,-12.7) 54(14.5,-12.7) 55(14.5,-11.43) 56(14.5,-10.16) 57(14.5,-8.89) 58(14.5,-7.62) 59(14.5,-6.35) 60(14.5,-5.08) 61(14.5,-3.81) 62(14.5,-2.54) 63(14.5,-1.27) 64(14.5,0) 65(14.5,1.27) 66(14.5,2.54) 67(14.5,3.81) 68(14.5,5.08) 69(14.5,6.35) 70(14.5,7.62) 71(14.5,8.89) 72(14.5,10.16) 73(14.5,11.43) 74(14.5,12.7)
Top Overlay:
  circle w0.25: c0,16.2 r0.125
  lines w0.25: -15.475,-13.597 -15.475,-15.462 -13.61,-15.462 ; -15.475,13.623 -15.475,14.388 -14.375,15.488 -13.61,15.488 ; 13.61,-15.462 15.475,-15.462 15.475,-13.597 ; 13.61,15.488 15.475,15.488 15.475,13.623

## QCC-J100 [mm] "Leaded Chip Carrier, Plastic; 100 Leads; Body 34 x 34 mm"
height 5.08
pads (100):
  rect 0.6x2.25 smd: 1(0,16.975) 2(-1.27,16.975) 3(-2.54,16.975) 4(-3.81,16.975) 5(-5.08,16.975) 6(-6.35,16.975) 7(-7.62,16.975) 8(-8.89,16.975) 9(-10.16,16.975) 10(-11.43,16.975) 11(-12.7,16.975) 12(-13.97,16.975) 13(-15.24,16.975) 39(-15.24,-16.975) 40(-13.97,-16.975) 41(-12.7,-16.975) 42(-11.43,-16.975) 43(-10.16,-16.975) 44(-8.89,-16.975) 45(-7.62,-16.975) 46(-6.35,-16.975) 47(-5.08,-16.975) 48(-3.81,-16.975) 49(-2.54,-16.975) 50(-1.27,-16.975) 51(0,-16.975) 52(1.27,-16.975) 53(2.54,-16.975) 54(3.81,-16.975) 55(5.08,-16.975) 56(6.35,-16.975) 57(7.62,-16.975) 58(8.89,-16.975) 59(10.16,-16.975) 60(11.43,-16.975) 61(12.7,-16.975) 62(13.97,-16.975) 63(15.24,-16.975) 89(15.24,16.975) 90(13.97,16.975) 91(12.7,16.975) 92(11.43,16.975) 93(10.16,16.975) 94(8.89,16.975) 95(7.62,16.975) 96(6.35,16.975) 97(5.08,16.975) 98(3.81,16.975) 99(2.54,16.975) 100(1.27,16.975)
  rect 2.25x0.6 smd: 14(-16.975,15.24) 15(-16.975,13.97) 16(-16.975,12.7) 17(-16.975,11.43) 18(-16.975,10.16) 19(-16.975,8.89) 20(-16.975,7.62) 21(-16.975,6.35) 22(-16.975,5.08) 23(-16.975,3.81) 24(-16.975,2.54) 25(-16.975,1.27) 26(-16.975,0) 27(-16.975,-1.27) 28(-16.975,-2.54) 29(-16.975,-3.81) 30(-16.975,-5.08) 31(-16.975,-6.35) 32(-16.975,-7.62) 33(-16.975,-8.89) 34(-16.975,-10.16) 35(-16.975,-11.43) 36(-16.975,-12.7) 37(-16.975,-13.97) 38(-16.975,-15.24) 64(16.975,-15.24) 65(16.975,-13.97) 66(16.975,-12.7) 67(16.975,-11.43) 68(16.975,-10.16) 69(16.975,-8.89) 70(16.975,-7.62) 71(16.975,-6.35) 72(16.975,-5.08) 73(16.975,-3.81) 74(16.975,-2.54) 75(16.975,-1.27) 76(16.975,0) 77(16.975,1.27) 78(16.975,2.54) 79(16.975,3.81) 80(16.975,5.08) 81(16.975,6.35) 82(16.975,7.62) 83(16.975,8.89) 84(16.975,10.16) 85(16.975,11.43) 86(16.975,12.7) 87(16.975,13.97) 88(16.975,15.24)
Top Overlay:
  circle w0.25: c0,18.7 r0.125
  lines w0.25: -17.975,-16.087 -17.975,-17.987 -16.075,-17.987 ; -17.975,16.063 -17.975,16.838 -16.85,17.962 -16.075,17.962 ; 16.075,-17.987 17.975,-17.987 17.975,-16.087 ; 16.075,17.962 17.975,17.962 17.975,16.063

## QCC-J124 [mm] "Leaded Chip Carrier, Plastic; 124 Leads; Body 42 x 42 mm"
height 5.08
pads (124):
  rect 0.6x2.2 smd: 1(0,20.8) 2(-1.27,20.8) 3(-2.54,20.8) 4(-3.81,20.8) 5(-5.08,20.8) 6(-6.35,20.8) 7(-7.62,20.8) 8(-8.89,20.8) 9(-10.16,20.8) 10(-11.43,20.8) 11(-12.7,20.8) 12(-13.97,20.8) 13(-15.24,20.8) 14(-16.51,20.8) 15(-17.78,20.8) 16(-19.05,20.8) 48(-19.05,-20.8) 49(-17.78,-20.8) 50(-16.51,-20.8) 51(-15.24,-20.8) 52(-13.97,-20.8) 53(-12.7,-20.8) 54(-11.43,-20.8) 55(-10.16,-20.8) 56(-8.89,-20.8) 57(-7.62,-20.8) 58(-6.35,-20.8) 59(-5.08,-20.8) 60(-3.81,-20.8) 61(-2.54,-20.8) 62(-1.27,-20.8) 63(0,-20.8) 64(1.27,-20.8) 65(2.54,-20.8) 66(3.81,-20.8) 67(5.08,-20.8) 68(6.35,-20.8) 69(7.62,-20.8) 70(8.89,-20.8) 71(10.16,-20.8) 72(11.43,-20.8) 73(12.7,-20.8) 74(13.97,-20.8) 75(15.24,-20.8) 76(16.51,-20.8) 77(17.78,-20.8) 78(19.05,-20.8) 110(19.05,20.8) 111(17.78,20.8) 112(16.51,20.8) 113(15.24,20.8) 114(13.97,20.8) 115(12.7,20.8) 116(11.43,20.8) 117(10.16,20.8) 118(8.89,20.8) 119(7.62,20.8) 120(6.35,20.8) 121(5.08,20.8) 122(3.81,20.8) 123(2.54,20.8) 124(1.27,20.8)
  rect 2.2x0.6 smd: 17(-20.8,19.05) 18(-20.8,17.78) 19(-20.8,16.51) 20(-20.8,15.24) 21(-20.8,13.97) 22(-20.8,12.7) 23(-20.8,11.43) 24(-20.8,10.16) 25(-20.8,8.89) 26(-20.8,7.62) 27(-20.8,6.35) 28(-20.8,5.08) 29(-20.8,3.81) 30(-20.8,2.54) 31(-20.8,1.27) 32(-20.8,0) 33(-20.8,-1.27) 34(-20.8,-2.54) 35(-20.8,-3.81) 36(-20.8,-5.08) 37(-20.8,-6.35) 38(-20.8,-7.62) 39(-20.8,-8.89) 40(-20.8,-10.16) 41(-20.8,-11.43) 42(-20.8,-12.7) 43(-20.8,-13.97) 44(-20.8,-15.24) 45(-20.8,-16.51) 46(-20.8,-17.78) 47(-20.8,-19.05) 79(20.8,-19.05) 80(20.8,-17.78) 81(20.8,-16.51) 82(20.8,-15.24) 83(20.8,-13.97) 84(20.8,-12.7) 85(20.8,-11.43) 86(20.8,-10.16) 87(20.8,-8.89) 88(20.8,-7.62) 89(20.8,-6.35) 90(20.8,-5.08) 91(20.8,-3.81) 92(20.8,-2.54) 93(20.8,-1.27) 94(20.8,0) 95(20.8,1.27) 96(20.8,2.54) 97(20.8,3.81) 98(20.8,5.08) 99(20.8,6.35) 100(20.8,7.62) 101(20.8,8.89) 102(20.8,10.16) 103(20.8,11.43) 104(20.8,12.7) 105(20.8,13.97) 106(20.8,15.24) 107(20.8,16.51) 108(20.8,17.78) 109(20.8,19.05)
Top Overlay:
  circle w0.25: c0,22.5 r0.125
  lines w0.25: -21.775,-19.898 -21.775,-21.787 -19.885,-21.787 ; -21.775,19.872 -21.775,20.663 -20.675,21.763 -19.885,21.763 ; 19.885,-21.787 21.775,-21.787 21.775,-19.898 ; 19.885,21.763 21.775,21.763 21.775,19.872